# Altium footprint library eic_lib.PcbLib: 17 footprints (part 1 of 2)
Each footprint in its own frame and in the unit in brackets; x right, y up, seen from the top. Pads: shape width x height; smd on the part's side, far side on the other; paste and mask are expansions set on the pad; w line width, h text height; cw(c..) or ccw(c..) is an arc to the next point about the centre after c.
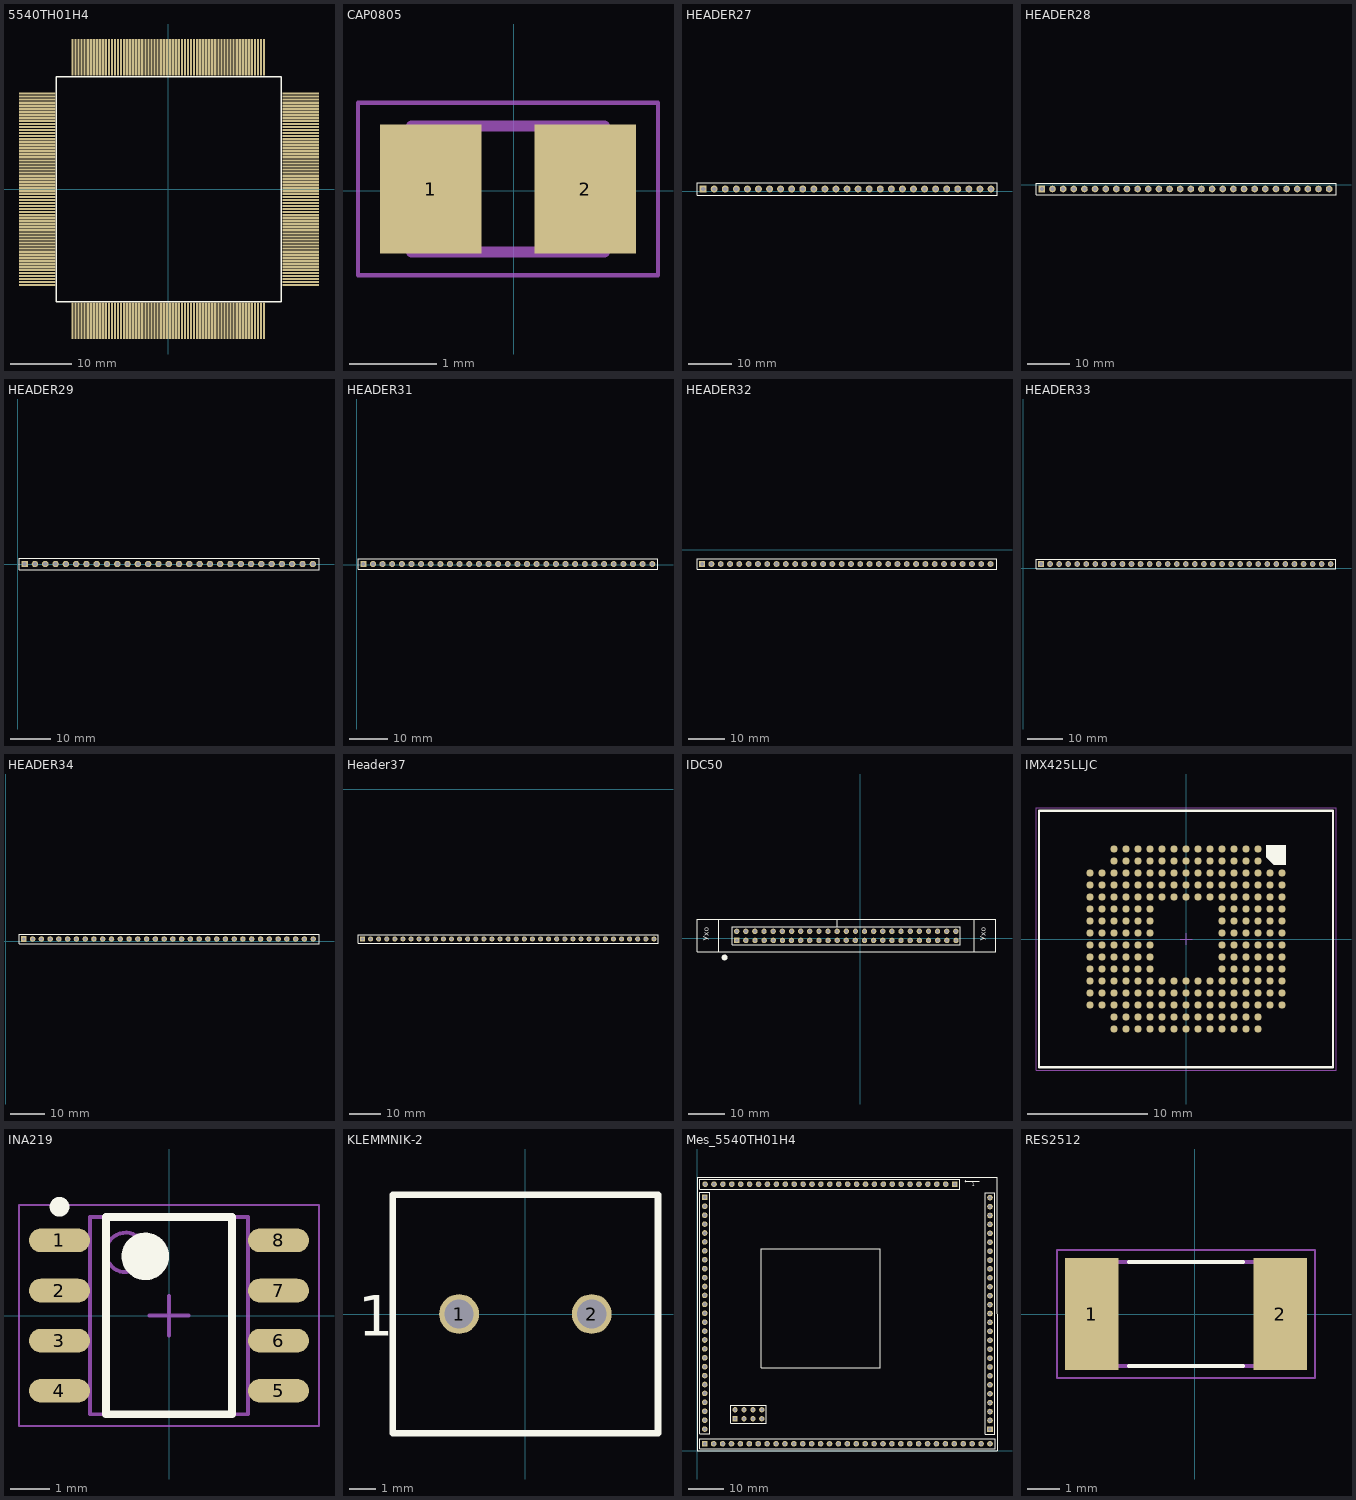
[diagram p0: the footprints below, top view; thin cyan lines are the x and y axes]

## 5540TH01H4 [mm]
pads (256):
  rect 0.375x6 smd: 1(-15.74,-21.601) 2(-15.24,-21.601) 3(-14.74,-21.601) 4(-14.24,-21.601) 5(-13.74,-21.601) 6(-13.24,-21.601) 7(-12.74,-21.601) 8(-12.24,-21.601) 9(-11.74,-21.601) 10(-11.24,-21.601) 11(-10.74,-21.601) 12(-10.24,-21.601) 13(-9.74,-21.601) 14(-9.24,-21.601) 15(-8.74,-21.601) 16(-8.24,-21.601) 17(-7.74,-21.601) 18(-7.24,-21.601) 19(-6.74,-21.601) 20(-6.24,-21.601) 21(-5.74,-21.601) 22(-5.24,-21.601) 23(-4.74,-21.601) 24(-4.24,-21.601) 25(-3.74,-21.601) 26(-3.24,-21.601) 27(-2.74,-21.601) 28(-2.24,-21.601) 29(-1.74,-21.601) 30(-1.24,-21.601) 31(-0.74,-21.601) 32(-0.24,-21.601) 33(0.26,-21.601) 34(0.76,-21.601) 35(1.26,-21.601) 36(1.76,-21.601) 37(2.26,-21.601) 38(2.76,-21.601) 39(3.26,-21.601) 40(3.76,-21.601) 41(4.26,-21.601) 42(4.76,-21.601) 43(5.26,-21.601) 44(5.76,-21.601) 45(6.26,-21.601) 46(6.76,-21.601) 47(7.26,-21.601) 48(7.76,-21.601) 49(8.26,-21.601) 50(8.76,-21.601) 51(9.26,-21.601) 52(9.76,-21.601) 53(10.26,-21.601) 54(10.76,-21.601) 55(11.26,-21.601) 56(11.76,-21.601) 57(12.26,-21.601) 58(12.76,-21.601) 59(13.26,-21.601) 60(13.76,-21.601) 61(14.26,-21.601) 62(14.76,-21.601) 63(15.26,-21.601) 64(15.76,-21.601) 129(15.76,21.701) 130(15.26,21.701) 131(14.76,21.701) 132(14.26,21.701) 133(13.76,21.701) 134(13.26,21.701) 135(12.76,21.701) 136(12.26,21.701) 137(11.76,21.701) 138(11.26,21.701) 139(10.76,21.701) 140(10.26,21.701) 141(9.76,21.701) 142(9.26,21.701) 143(8.76,21.701) 144(8.26,21.701) 145(7.76,21.701) 146(7.26,21.701) 147(6.76,21.701) 148(6.26,21.701) 149(5.76,21.701) 150(5.26,21.701) 151(4.76,21.701) 152(4.26,21.701) 153(3.76,21.701) 154(3.26,21.701) 155(2.76,21.701) 156(2.26,21.701) 157(1.76,21.701) 158(1.26,21.701) 159(0.76,21.701) 160(0.26,21.701) 161(-0.24,21.701) 162(-0.74,21.701) 163(-1.24,21.701) 164(-1.74,21.701) 165(-2.24,21.701) 166(-2.74,21.701) 167(-3.24,21.701) 168(-3.74,21.701) 169(-4.24,21.701) 170(-4.74,21.701) 171(-5.24,21.701) 172(-5.74,21.701) 173(-6.24,21.701) 174(-6.74,21.701) 175(-7.24,21.701) 176(-7.74,21.701) 177(-8.24,21.701) 178(-8.74,21.701) 179(-9.24,21.701) 180(-9.74,21.701) 181(-10.24,21.701) 182(-10.74,21.701) 183(-11.24,21.701) 184(-11.74,21.701) 185(-12.24,21.701) 186(-12.74,21.701) 187(-13.24,21.701) 188(-13.74,21.701) 189(-14.24,21.701) 190(-14.74,21.701) 191(-15.24,21.701) 192(-15.74,21.701)
  rect 6x0.375 smd: 65(21.8,-15.749) 66(21.8,-15.249) 67(21.8,-14.749) 68(21.8,-14.249) 69(21.8,-13.749) 70(21.8,-13.249) 71(21.8,-12.749) 72(21.8,-12.249) 73(21.8,-11.749) 74(21.8,-11.249) 75(21.8,-10.749) 76(21.8,-10.249) 77(21.8,-9.749) 78(21.8,-9.249) 79(21.8,-8.749) 80(21.8,-8.249) 81(21.8,-7.749) 82(21.8,-7.249) 83(21.8,-6.749) 84(21.8,-6.249) 85(21.8,-5.749) 86(21.8,-5.249) 87(21.8,-4.749) 88(21.8,-4.249) 89(21.8,-3.749) 90(21.8,-3.249) 91(21.8,-2.749) 92(21.8,-2.249) 93(21.8,-1.749) 94(21.8,-1.249) 95(21.8,-0.749) 96(21.8,-0.249) 97(21.8,0.251) 98(21.8,0.751) 99(21.8,1.251) 100(21.8,1.751) 101(21.8,2.251) 102(21.8,2.751) 103(21.8,3.251) 104(21.8,3.751) 105(21.8,4.251) 106(21.8,4.751) 107(21.8,5.251) 108(21.8,5.751) 109(21.8,6.251) 110(21.8,6.751) 111(21.8,7.251) 112(21.8,7.751) 113(21.8,8.251) 114(21.8,8.751) 115(21.8,9.251) 116(21.8,9.751) 117(21.8,10.251) 118(21.8,10.751) 119(21.8,11.251) 120(21.8,11.751) 121(21.8,12.251) 122(21.8,12.751) 123(21.8,13.251) 124(21.8,13.751) 125(21.8,14.251) 126(21.8,14.751) 127(21.8,15.251) 128(21.8,15.751) 193(-21.488,15.748) 194(-21.5,15.251) 195(-21.5,14.751) 196(-21.5,14.251) 197(-21.5,13.751) 198(-21.5,13.251) 199(-21.5,12.751) 200(-21.5,12.251) 201(-21.5,11.751) 202(-21.5,11.251) 203(-21.5,10.751) 204(-21.5,10.251) 205(-21.5,9.751) 206(-21.5,9.251) 207(-21.5,8.751) 208(-21.5,8.251) 209(-21.5,7.751) 210(-21.5,7.251) 211(-21.5,6.751) 212(-21.5,6.251) 213(-21.5,5.751) 214(-21.5,5.251) 215(-21.5,4.751) 216(-21.5,4.251) 217(-21.5,3.751) 218(-21.5,3.251) 219(-21.5,2.751) 220(-21.5,2.251) 221(-21.5,1.751) 222(-21.5,1.251) 223(-21.5,0.751) 224(-21.5,0.251) 225(-21.5,-0.249) 226(-21.5,-0.749) 227(-21.5,-1.249) 228(-21.5,-1.749) 229(-21.5,-2.249) 230(-21.5,-2.749) 231(-21.5,-3.249) 232(-21.5,-3.749) 233(-21.5,-4.249) 234(-21.5,-4.749) 235(-21.5,-5.249) 236(-21.5,-5.749) 237(-21.5,-6.249) 238(-21.5,-6.749) 239(-21.5,-7.249) 240(-21.5,-7.749) 241(-21.5,-8.249) 242(-21.5,-8.749) 243(-21.5,-9.249) 244(-21.5,-9.749) 245(-21.5,-10.249) 246(-21.5,-10.749) 247(-21.5,-11.249) 248(-21.5,-11.749) 249(-21.5,-12.249) 250(-21.5,-12.749) 251(-21.5,-13.249) 252(-21.5,-13.749) 253(-21.5,-14.249) 254(-21.5,-14.749) 255(-21.5,-15.249) 256(-21.525,-15.75)
Top Overlay:
  lines w0.254: -18.4,-18.475 18.6,-18.475 18.6,18.525 -18.4,18.525 -18.4,-18.475

## CAP0805 [mm]
pads (2):
  rect 1.16x1.47 smd: 1(-0.946,0.022) 2(0.814,0.022)
Mechanical 13:
  lines w0.127: -1.166,-0.698 -1.166,0.742 1.034,0.742 1.034,-0.698 -1.166,-0.698
Mechanical 15:
  lines w0.05: -1.779,-0.961 -1.779,1.005 1.647,1.005 1.647,-0.961 -1.779,-0.961
3D body "step_temp.STEP": height 0.94, standoff 0, extent -1.071,-0.603 0.939,0.647

## HEADER27 [mm]
pads (27):
  rect 1.6x1.6 hole 0.99: 1(7.683,0.48)
  round 1.6 hole 0.99: 2(10.223,0.48) 3(12.763,0.48) 4(15.303,0.48) 5(17.843,0.48) 6(20.383,0.48) 7(22.923,0.48) 8(25.463,0.48) 9(28.003,0.48) 10(30.543,0.48) 11(33.083,0.48) 12(35.623,0.48) 13(38.163,0.48) 14(40.703,0.48) 15(43.243,0.48) 16(45.783,0.48) 17(48.323,0.48) 18(50.863,0.48) 19(53.403,0.48) 20(55.943,0.48) 21(58.483,0.48) 22(61.023,0.48) 23(63.563,0.48) 24(66.103,0.48) 25(68.643,0.48) 26(71.183,0.48) 27(73.723,0.48)
Top Overlay:
  lines w0.2: 6.283,-0.92 6.283,1.88 75.1,1.88 75.1,-0.92 6.283,-0.92

## HEADER28 [mm]
pads (28):
  rect 1.6x1.6 hole 0.99: 1(8.983,-1.02)
  round 1.6 hole 0.99: 2(11.523,-1.02) 3(14.063,-1.02) 4(16.603,-1.02) 5(19.143,-1.02) 6(21.683,-1.02) 7(24.223,-1.02) 8(26.763,-1.02) 9(29.303,-1.02) 10(31.843,-1.02) 11(34.383,-1.02) 12(36.923,-1.02) 13(39.463,-1.02) 14(42.003,-1.02) 15(44.543,-1.02) 16(47.083,-1.02) 17(49.623,-1.02) 18(52.163,-1.02) 19(54.703,-1.02) 20(57.243,-1.02) 21(59.783,-1.02) 22(62.323,-1.02) 23(64.863,-1.02) 24(67.403,-1.02) 25(69.943,-1.02) 26(72.483,-1.02) 27(75.023,-1.02) 28(77.563,-1.02)
Top Overlay:
  lines w0.2: 7.583,-2.42 79.2,-2.42 79.2,0.38 7.583,0.38 7.583,-2.42

## HEADER29 [mm]
pads (29):
  rect 1.6x1.6 hole 0.99: 1(1.754,0.044)
  round 1.6 hole 0.99: 2(4.294,0.044) 3(6.834,0.044) 4(9.374,0.044) 5(11.914,0.044) 6(14.454,0.044) 7(16.994,0.044) 8(19.534,0.044) 9(22.074,0.044) 10(24.614,0.044) 11(27.154,0.044) 12(29.694,0.044) 13(32.234,0.044) 14(34.774,0.044) 15(37.314,0.044) 16(39.854,0.044) 17(42.394,0.044) 18(44.934,0.044) 19(47.474,0.044) 20(50.014,0.044) 21(52.554,0.044) 22(55.094,0.044) 23(57.634,0.044) 24(60.174,0.044) 25(62.714,0.044) 26(65.254,0.044) 27(67.794,0.044) 28(70.334,0.044) 29(72.874,0.044)
Top Overlay:
  lines w0.2: 0.354,-1.356 74.4,-1.356 74.4,1.444 0.354,1.444 0.354,-1.356

## HEADER31 [mm]
pads (31):
  rect 1.6x1.6 hole 0.99: 1(1.754,0.144)
  round 1.6 hole 0.99: 2(4.294,0.144) 3(6.834,0.144) 4(9.374,0.144) 5(11.914,0.144) 6(14.454,0.144) 7(16.994,0.144) 8(19.534,0.144) 9(22.074,0.144) 10(24.614,0.144) 11(27.154,0.144) 12(29.694,0.144) 13(32.234,0.144) 14(34.774,0.144) 15(37.314,0.144) 16(39.854,0.144) 17(42.394,0.144) 18(44.934,0.144) 19(47.474,0.144) 20(50.014,0.144) 21(52.554,0.144) 22(55.094,0.144) 23(57.634,0.144) 24(60.174,0.144) 25(62.714,0.144) 26(65.254,0.144) 27(67.794,0.144) 28(70.334,0.144) 29(72.874,0.144) 30(75.434,0.144) 31(77.974,0.144)
Top Overlay:
  lines w0.2: 0.354,-1.256 0.354,1.544 79.477,1.544 79.477,-1.256 0.354,-1.256

## HEADER32 [mm]
pads (32):
  rect 1.6x1.6 hole 0.99: 1(17.883,-3.92)
  round 1.6 hole 0.99: 2(20.423,-3.92) 3(22.963,-3.92) 4(25.503,-3.92) 5(28.043,-3.92) 6(30.583,-3.92) 7(33.123,-3.92) 8(35.663,-3.92) 9(38.203,-3.92) 10(40.743,-3.92) 11(43.283,-3.92) 12(45.823,-3.92) 13(48.363,-3.92) 14(50.903,-3.92) 15(53.443,-3.92) 16(55.983,-3.92) 17(58.523,-3.92) 18(61.063,-3.92) 19(63.603,-3.92) 20(66.143,-3.92) 21(68.683,-3.92) 22(71.223,-3.92) 23(73.763,-3.92) 24(76.303,-3.92) 25(78.843,-3.92) 26(81.383,-3.92) 27(83.923,-3.92) 28(86.463,-3.92) 29(89.003,-3.92) 30(91.563,-3.92) 31(94.103,-3.92) 32(96.643,-3.92)
Top Overlay:
  lines w0.2: 16.483,-5.32 98.4,-5.32 98.4,-2.52 16.483,-2.52 16.483,-5.32

## HEADER33 [mm]
pads (33):
  rect 1.6x1.6 hole 0.99: 1(5.019,1.24)
  round 1.6 hole 0.99: 2(7.559,1.24) 3(10.099,1.24) 4(12.639,1.24) 5(15.179,1.24) 6(17.719,1.24) 7(20.259,1.24) 8(22.799,1.24) 9(25.339,1.24) 10(27.879,1.24) 11(30.419,1.24) 12(32.959,1.24) 13(35.499,1.24) 14(38.039,1.24) 15(40.579,1.24) 16(43.119,1.24) 17(45.659,1.24) 18(48.199,1.24) 19(50.739,1.24) 20(53.279,1.24) 21(55.819,1.24) 22(58.359,1.24) 23(60.899,1.24) 24(63.439,1.24) 25(65.979,1.24) 26(68.519,1.24) 27(71.059,1.24) 28(73.599,1.24) 29(76.139,1.24) 30(78.699,1.24) 31(81.239,1.24) 32(83.779,1.24) 33(86.319,1.24)
Top Overlay:
  lines w0.2: 3.619,-0.16 87.8,-0.16 87.8,2.64 3.619,2.64 3.619,-0.16

## HEADER34 [mm]
pads (34):
  rect 1.6x1.6 hole 0.99: 1(5.205,0.677)
  round 1.6 hole 0.99: 2(7.745,0.677) 3(10.285,0.677) 4(12.825,0.677) 5(15.365,0.677) 6(17.905,0.677) 7(20.445,0.677) 8(22.985,0.677) 9(25.525,0.677) 10(28.065,0.677) 11(30.605,0.677) 12(33.145,0.677) 13(35.685,0.677) 14(38.225,0.677) 15(40.765,0.677) 16(43.305,0.677) 17(45.845,0.677) 18(48.385,0.677) 19(50.925,0.677) 20(53.465,0.677) 21(56.005,0.677) 22(58.545,0.677) 23(61.085,0.677) 24(63.625,0.677) 25(66.165,0.677) 26(68.705,0.677) 27(71.245,0.677) 28(73.785,0.677) 29(76.325,0.677) 30(78.885,0.677) 31(81.425,0.677) 32(83.965,0.677) 33(86.505,0.677) 34(89.045,0.677)
Top Overlay:
  lines w0.2: 3.805,-0.723 3.805,2.077 90.729,2.077 90.729,-0.723 3.805,-0.723

## Header37 [mm]
pads (37):
  rect 1.6x1.6 hole 0.99: 1(162.355,-47.05)
  round 1.6 hole 0.99: 2(164.895,-47.05) 3(167.435,-47.05) 4(169.975,-47.05) 5(172.515,-47.05) 6(175.055,-47.05) 7(177.595,-47.05) 8(180.135,-47.05) 9(182.675,-47.05) 10(185.215,-47.05) 11(187.755,-47.05) 12(190.295,-47.05) 13(192.835,-47.05) 14(195.375,-47.05) 15(197.915,-47.05) 16(200.455,-47.05) 17(202.995,-47.05) 18(205.535,-47.05) 19(208.075,-47.05) 20(210.615,-47.05) 21(213.155,-47.05) 22(215.695,-47.05) 23(218.235,-47.05) 24(220.775,-47.05) 25(223.315,-47.05) 26(225.855,-47.05) 27(228.395,-47.05) 28(230.935,-47.05) 29(233.475,-47.05) 30(236.035,-47.05) 31(238.575,-47.05) 32(241.115,-47.05) 33(243.655,-47.05) 34(246.195,-47.05) 35(248.735,-47.05) 36(251.275,-47.05) 37(253.815,-47.05)
Top Overlay:
  lines w0.2: 160.955,-48.45 255.1,-48.45 255.1,-45.65 160.955,-45.65 160.955,-48.45

## IDC50 [mm]
pads (50):
  rect 1.5x1.5 hole 0.9: 1(-34.325,-0.595)
  round 1.5 hole 0.9: 2(-34.325,1.945) 3(-31.785,-0.595) 4(-31.785,1.945) 5(-29.206,-0.588) 6(-29.245,1.945) 7(-26.666,-0.588) 8(-26.705,1.945) 9(-24.126,-0.588) 10(-24.165,1.945) 11(-21.586,-0.588) 12(-21.625,1.945) 13(-19.085,-0.595) 14(-19.046,1.952) 15(-16.506,-0.588) 16(-16.506,1.952) 17(-14.005,-0.595) 18(-14.005,1.945) 19(-11.426,-0.588) 20(-11.426,1.952) 21(-8.886,-0.588) 22(-8.925,1.945) 23(-6.346,-0.588) 24(-6.385,1.945) 25(-3.845,-0.595) 26(-3.806,1.952) 27(-1.305,-0.595) 28(-1.266,1.952) 29(1.235,-0.595) 30(1.235,1.945) 31(3.775,-0.595) 32(3.775,1.945) 33(6.315,-0.595) 34(6.315,1.945) 35(8.855,-0.595) 36(8.855,1.945) 37(11.395,-0.595) 38(11.395,1.945) 39(13.935,-0.595) 40(13.974,1.952) 41(16.514,-0.588) 42(16.514,1.952) 43(19.054,-0.588) 44(19.054,1.952) 45(21.594,-0.588) 46(21.555,1.945) 47(24.134,-0.588) 48(24.095,1.945) 49(26.674,-0.588) 50(26.635,1.945)
Top Overlay:
  circle w0.854: c-37.687,-5.351 r0.381
  circle w0.854: c-37.648,-5.343 r0.381
  lines w0.2: -35.595,-1.865 27.905,-1.865 27.905,3.215 -35.595,3.215 -35.595,-1.865
  lines w0.254: -39.316,5.331 31.784,5.331 ; -6.41,3.265 -6.41,5.275 ; 37.746,-3.777 31.746,-3.777 ; 37.746,5.323 31.746,5.323 31.746,-3.777 ; 37.784,-3.769 37.784,5.331 ; -39.354,-3.777 -45.354,-3.777 -45.354,5.323 -39.354,5.323 -39.354,-3.777 ; -39.354,-3.777 31.746,-3.777
  text "Ухо" at 35.568,-0.683 h2.52
  text "Ухо" at -41.532,-0.683 h2.52

## IMX425LLJC [mm] "LGA, 81-Leads, Body 11,00x11,00mmx3,50mm, Pitch 1,00mm"
height 3.5
pads (226):
  round 0.6 smd: A3(8,5.5) A4(8,4.5) A5(8,3.5) A6(8,2.5) A7(8,1.5) A8(8,0.5) A9(8,-0.5) A10(8,-1.5) A11(8,-2.5) A12(8,-3.5) A13(8,-4.5) A14(8,-5.5) B3(7,5.5) B4(7,4.5) B5(7,3.5) B6(7,2.5) B7(7,1.5) B8(7,0.5) B9(7,-0.5) B10(7,-1.5) B11(7,-2.5) B12(7,-3.5) B13(7,-4.5) B14(7,-5.5) C1(6,7.5) C2(6,6.5) C3(6,5.5) C4(6,4.5) C5(6,3.5) C6(6,2.5) C7(6,1.5) C8(6,0.5) C9(6,-0.5) C10(6,-1.5) C11(6,-2.5) C12(6,-3.5) C13(6,-4.5) C14(6,-5.5) C15(6,-6.5) C16(6,-7.5) D1(5,7.5) D2(5,6.5) D3(5,5.5) D4(5,4.5) D5(5,3.5) D6(5,2.5) D7(5,1.5) D8(5,0.5) D9(5,-0.5) D10(5,-1.5) D11(5,-2.5) D12(5,-3.5) D13(5,-4.5) D14(5,-5.5) D15(5,-6.5) D16(5,-7.5) E1(4,7.5) E2(4,6.5) E3(4,5.5) E4(4,4.5) E5(4,3.5) E6(4,2.5) E7(4,1.5) E8(4,0.5) E9(4,-0.5) E10(4,-1.5) E11(4,-2.5) E12(4,-3.5) E13(4,-4.5) E14(4,-5.5) E15(4,-6.5) E16(4,-7.5) F1(3,7.5) F2(3,6.5) F3(3,5.5) F4(3,4.5) F5(3,3.5) F6(3,2.5) F7(3,1.5) F8(3,0.5) F9(3,-0.5) F10(3,-1.5) F11(3,-2.5) F12(3,-3.5) F13(3,-4.5) F14(3,-5.5) F15(3,-6.5) F16(3,-7.5) G1(2,7.5) G2(2,6.5) G3(2,5.5) G4(2,4.5) G5(2,3.5) G12(2,-3.5) G13(2,-4.5) G14(2,-5.5) G15(2,-6.5) G16(2,-7.5) H1(1,7.5) H2(1,6.5) H3(1,5.5) H4(1,4.5) H5(1,3.5) H12(1,-3.5) H13(1,-4.5) H14(1,-5.5) H15(1,-6.5) H16(1,-7.5) J1(0,7.5) J2(0,6.5) J3(0,5.5) J4(0,4.5) J5(0,3.5) J12(0,-3.5) J13(0,-4.5) J14(0,-5.5) J15(0,-6.5) J16(0,-7.5) K1(-1,7.5) K2(-1,6.5) K3(-1,5.5) K4(-1,4.5) K5(-1,3.5) K12(-1,-3.5) K13(-1,-4.5) K14(-1,-5.5) K15(-1,-6.5) K16(-1,-7.5) L1(-2,7.5) L2(-2,6.5) L3(-2,5.5) L4(-2,4.5) L5(-2,3.5) L12(-2,-3.5) L13(-2,-4.5) L14(-2,-5.5) L15(-2,-6.5) L16(-2,-7.5) M1(-3,7.5) M2(-3,6.5) M3(-3,5.5) M4(-3,4.5) M5(-3,3.5) M6(-3,2.5) M7(-3,1.5) M8(-3,0.5) M9(-3,-0.5) M10(-3,-1.5) M11(-3,-2.5) M12(-3,-3.5) M13(-3,-4.5) M14(-3,-5.5) M15(-3,-6.5) M16(-3,-7.5) N1(-4,7.5) N2(-4,6.5) N3(-4,5.5) N4(-4,4.5) N5(-4,3.5) N6(-4,2.5) N7(-4,1.5) N8(-4,0.5) N9(-4,-0.5) N10(-4,-1.5) N11(-4,-2.5) N12(-4,-3.5) N13(-4,-4.5) N14(-4,-5.5) N15(-4,-6.5) N16(-4,-7.5) P1(-5,7.5) P2(-5,6.5) P3(-5,5.5) P4(-5,4.5) P5(-5,3.5) P6(-5,2.5) P7(-5,1.5) P8(-5,0.5) P9(-5,-0.5) P10(-5,-1.5) P11(-5,-2.5) P12(-5,-3.5) P13(-5,-4.5) P14(-5,-5.5) P15(-5,-6.5) P16(-5,-7.5) R1(-6,7.5) R2(-6,6.5) R3(-6,5.5) R4(-6,4.5) R5(-6,3.5) R6(-6,2.5) R7(-6,1.5) R8(-6,0.5) R9(-6,-0.5) R10(-6,-1.5) R11(-6,-2.5) R12(-6,-3.5) R13(-6,-4.5) R14(-6,-5.5) R15(-6,-6.5) R16(-6,-7.5) T3(-7,5.5) T4(-7,4.5) T5(-7,3.5) T6(-7,2.5) T7(-7,1.5) T8(-7,0.5) T9(-7,-0.5) T10(-7,-1.5) T11(-7,-2.5) T12(-7,-3.5) T13(-7,-4.5) T14(-7,-5.5) U3(-8,5.5) U4(-8,4.5) U5(-8,3.5) U6(-8,2.5) U7(-8,1.5) U8(-8,0.5) U9(-8,-0.5) U10(-8,-1.5) U11(-8,-2.5) U12(-8,-3.5) U13(-8,-4.5) U14(-8,-5.5)
Top Overlay:
  region: 6.7,6.8 7.3,6.2 6.7,6.8 6.7,7.8 8.3,7.8 8.3,6.2 7.3,6.2
  lines w0.2: -12.25,-10.7 -12.25,10.7 12.25,10.7 12.25,-10.7 -12.25,-10.7
Mechanical 13:
  lines w0.1: -12.25,-10.7 -12.25,10.7 12.25,10.7 12.25,-10.7 -12.25,-10.7
Mechanical 15:
  lines w0.05: -12.5,-10.95 12.5,-10.95 12.5,10.95 -12.5,10.95 -12.5,-10.95
  lines w0.1: -0.5,0 0.5,0 ; 0,-0.5 0,0.5
3D body: height 2.62, standoff 0.92, extent -12.25,-10.7 12.25,10.7

## INA219 [mm] "SOIC, 8-Leads, Body 4,88x3,91mm, Pitch 1,27mm, IPC Medium Density"
height 3.18
pads (8):
  oval 1.55x0.6 smd: 1(-2.775,1.905) 2(-2.775,0.635) 3(-2.775,-0.635) 4(-2.775,-1.905) 5(2.775,-1.905) 6(2.775,-0.635) 7(2.775,0.635) 8(2.775,1.905)
Top Overlay:
  circle w0.6: c-0.6,1.5 r0.3
  circle w0.25: c-2.775,2.755 r0.125
  lines w0.2: -1.6,-2.5 1.6,-2.5 1.6,2.5 -1.6,2.5 -1.6,-2.5
Mechanical 13:
  circle w0.1: c-1.1,1.6 r0.5
  lines w0.1: -2,-2.5 2,-2.5 2,2.5 -2,2.5 -2,-2.5
Mechanical 15:
  lines w0.05: -3.8,-2.8 3.8,-2.8 3.8,2.8 -3.8,2.8 -3.8,-2.8
  lines w0.1: -0.5,0 0.5,0 ; 0,-0.5 0,0.5
3D body: height 3.18, standoff 0.2, extent -2,-2.5 2,2.5

## KLEMMNIK-2 [mm]
pads (2):
  round 1.5 hole 1.1: 1(-2.5,0) 2(2.5,0)
Top Overlay:
  lines w0.254: -5,-4.5 5,-4.5 5,4.5 -5,4.5 -5,-4.5
  text "1" at -6.31,-0.813 h1.52

## Mes_5540TH01H4 [mm]
pads (124):
  rect 1.6x1.6 hole 0.99: 1(73.37,75.925) 30(2.15,72.165) 57(2.155,1.945) 94(83.45,6.045)
  round 1.6 hole 0.99: 2(70.83,75.925) 3(68.29,75.925) 4(65.75,75.925) 5(63.21,75.925) 6(60.67,75.925) 7(58.13,75.925) 8(55.59,75.925) 9(53.05,75.925) 10(50.51,75.925) 11(47.97,75.925) 12(45.43,75.925) 13(42.89,75.925) 14(40.35,75.925) 15(37.81,75.925) 16(35.27,75.925) 17(32.73,75.925) 18(30.19,75.925) 19(27.65,75.925) 20(25.11,75.925) 21(22.57,75.925) 22(20.03,75.925) 23(17.49,75.925) 24(14.95,75.925) 25(12.41,75.925) 26(9.87,75.925) 27(7.33,75.925) 28(4.79,75.925) 29(2.25,75.925) 31(2.15,69.625) 32(2.15,67.085) 33(2.15,64.545) 34(2.15,62.005) 35(2.15,59.465) 36(2.15,56.925) 37(2.15,54.385) 38(2.15,51.845) 39(2.15,49.305) 40(2.15,46.765) 41(2.15,44.225) 42(2.15,41.685) 43(2.15,39.145) 44(2.15,36.605) 45(2.15,34.065) 46(2.15,31.525) 47(2.15,28.985) 48(2.15,26.445) 49(2.15,23.905) 50(2.15,21.365) 51(2.15,18.825) 52(2.15,16.285) 53(2.15,13.745) 54(2.15,11.205) 55(2.15,8.665) 56(2.15,6.125) 62(4.695,1.945) 63(7.235,1.945) 64(9.775,1.945) 65(12.315,1.945) 66(14.855,1.945) 67(17.395,1.945) 68(19.935,1.945) 69(22.475,1.945) 70(25.015,1.945) 71(27.555,1.945) 72(30.095,1.945) 73(32.635,1.945) 74(35.175,1.945) 75(37.715,1.945) 76(40.255,1.945) 77(42.795,1.945) 78(45.335,1.945) 79(47.875,1.945) 80(50.415,1.945) 81(52.955,1.945) 82(55.495,1.945) 83(58.035,1.945) 84(60.575,1.945) 85(63.115,1.945) 86(65.655,1.945) 87(68.195,1.945) 88(70.735,1.945) 89(73.275,1.945) 90(75.835,1.945) 91(78.375,1.945) 92(80.915,1.945) 93(83.455,1.945) 95(83.45,8.585) 96(83.45,11.125) 97(83.45,13.665) 98(83.45,16.205) 99(83.45,18.745) 100(83.45,21.285) 101(83.45,23.825) 102(83.45,26.365) 103(83.45,28.905) 104(83.45,31.445) 105(83.45,33.985) 106(83.45,36.525) 107(83.45,39.065) 108(83.45,41.605) 109(83.45,44.145) 110(83.45,46.685) 111(83.45,49.225) 112(83.45,51.765) 113(83.45,54.305) 114(83.45,56.845) 115(83.45,59.385) 116(83.45,61.925) 117(83.45,64.465) 118(83.45,67.005) 119(83.45,69.545) 120(83.45,72.085)
  round 1.5 hole 0.9: 58(10.81,11.625) 59(13.35,11.625) 60(15.89,11.625) 61(18.43,11.625) 122(13.35,9.085) 123(15.89,9.085) 124(18.43,9.085)
  rect 1.5x1.5 hole 0.9: 121(10.81,9.085)
Top Overlay:
  lines w0.15: 76.6,76.625 76.45,76.775 76.45,76.8 76.4,76.8 ; 76.6,77 76.4,76.8 ; 80.35,76.8 76.4,76.8
  lines w0.2: 0.724,74.525 0.724,77.325 74.77,77.325 74.77,74.525 0.724,74.525 ; 0.75,4.748 3.55,4.748 3.55,73.565 0.75,73.565 0.75,4.748 ; 0.755,0.545 0.755,3.345 84.936,3.345 84.936,0.545 0.755,0.545 ; 9.54,7.815 9.54,12.895 19.7,12.895 19.7,7.815 9.54,7.815 ; 82.05,4.645 84.85,4.645 84.85,73.462 82.05,73.462 82.05,4.645
  lines w0.254: -0.05,-0.075 85.45,-0.075 85.45,77.925 -0.05,77.925 -0.05,-0.075 ; 18.215,23.617 18.215,57.475 52.125,57.475 52.125,25.1 52.125,23.617 50.642,23.617 18.215,23.617
  text "1" at 78.3,75.275 h1

## RES2512 [mm]
pads (2):
  rect 1.62x3.4 smd: 1(-3.132,0.004) 2(2.614,0.004)
Top Overlay:
  lines w0.127: -1.999,-1.586 1.481,-1.586 ; -1.999,1.594 1.481,1.594
Mechanical 13:
  lines w0.127: -3.434,-1.586 -3.434,1.594 2.916,1.594 2.916,-1.586 -3.434,-1.586
Mechanical 15:
  lines w0.05: -4.192,-1.946 -4.192,1.954 3.674,1.954 3.674,-1.946 -4.192,-1.946
3D body "step_temp.STEP": height 0.65, standoff 0, extent -3.434,-1.596 2.916,1.604